# EAGLE library part ADXL345BCCZ-RL (library Sensor)
ACCEL 2-16G I2C/SPI 14LGA Manufacturer's datasheet <https://www.analog.com/media/en/technical-documentation/data-sheets/ADXL345.pdf>
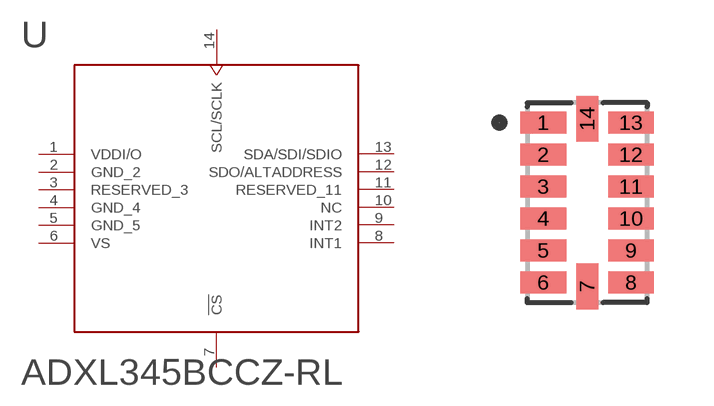
[diagram p14: symbol with the pads of 14-VFLGA; footprint 14-VFLGA]

Designator prefix U

## ADXL345BCCZ-RL (CREATED_BY: PCBLayout.com; DIGIKEY_PART_NUMBER: ADXL345BCCZ-RLCT-ND; MANUFACTURER: Analog Devices Inc.; MPN: ADXL345BCCZ-RL; PACKAGE: 14-VFLGA)  [14-VFLGA]
1  VDDI/O  pwr
2  GND_2  pwr
3  RESERVED_3  pas
4  GND_4  pwr
5  GND_5  pwr
6  VS  pwr
7  !CS
8  INT1  out
9  INT2  out
10  NC  pas
11  RESERVED_11  pas
12  SDO/ALTADDRESS
13  SDA/SDI/SDIO
14  SCL/SCLK

## Footprint 14-VFLGA (pad centres in mm)
smd 1.145 x 0.55: 1 -1.097,2; 2 -1.097,1.2; 3 -1.097,0.4; 4 -1.097,-0.4; 5 -1.097,-1.2; 6 -1.097,-2; 8 1.097,-2; 9 1.097,-1.2; 10 1.097,-0.4; 11 1.097,0.4; 12 1.097,1.2; 13 1.097,2
smd 0.55 x 1.145: 7 0,-2.098; 14 0,2.098